# Altium footprint library MODULES.PcbLib: 6 footprints
Each footprint in its own frame and in the unit in brackets; x right, y up, seen from the top. Pads: shape width x height; smd on the part's side, far side on the other; paste and mask are expansions set on the pad; w line width, h text height; cw(c..) or ccw(c..) is an arc to the next point about the centre after c.
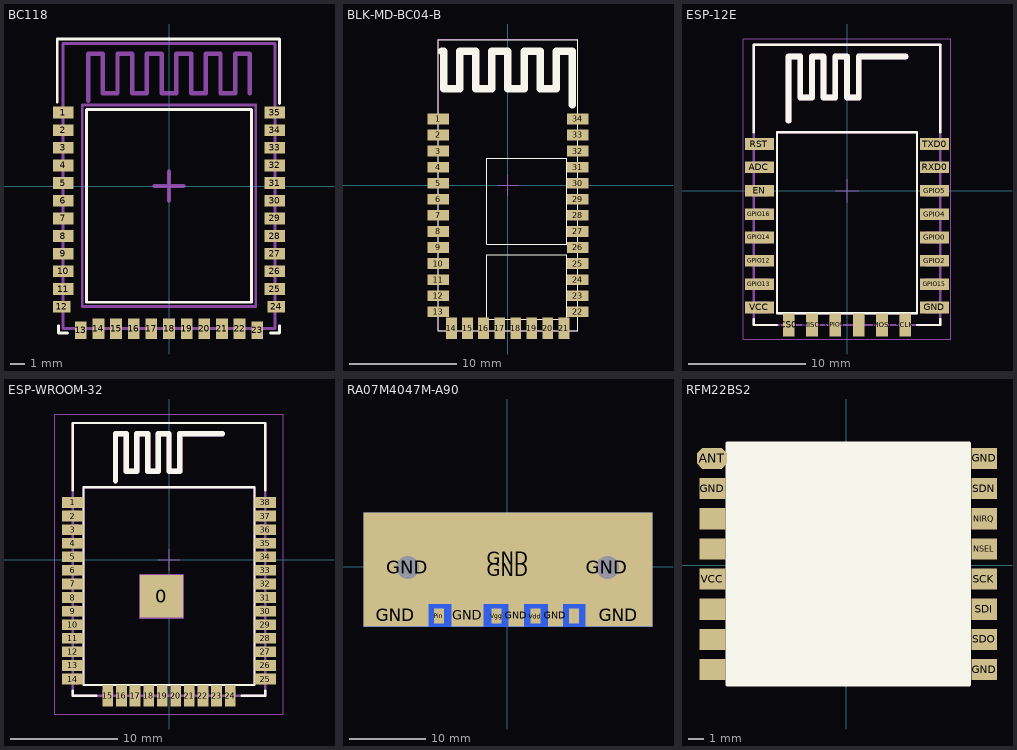
[diagram p0: the footprints below, top view; thin cyan lines are the x and y axes]

## BC118 [mm]
height 2.8
pads (35):
  rect 1.4x0.8 smd: 1(-7.2,5) 2(-7.2,3.8) 3(-7.2,2.6) 4(-7.2,1.4) 5(-7.2,0.2) 6(-7.2,-1) 7(-7.2,-2.2) 8(-7.2,-3.4) 9(-7.2,-4.6) 10(-7.2,-5.8) 11(-7.2,-7) 25(7.2,-7) 26(7.2,-5.8) 27(7.2,-4.6) 28(7.2,-3.4) 29(7.2,-2.2) 30(7.2,-1) 31(7.2,0.2) 32(7.2,1.4) 33(7.2,2.6) 34(7.2,3.8) 35(7.2,5)
  rect 1.2x0.8 smd: 12(-7.3,-8.2) 24(7.3,-8.2)
  rect 0.8x1.2 smd: 13(-6,-9.8) 23(6,-9.8)
  rect 0.8x1.4 smd: 14(-4.8,-9.7) 15(-3.6,-9.7) 16(-2.4,-9.7) 17(-1.2,-9.7) 18(0,-9.7) 19(1.2,-9.7) 20(2.4,-9.7) 21(3.6,-9.7) 22(4.8,-9.7)
Top Overlay:
  lines w0.2: -7.6,5.7 -7.6,10 7.5,10 7.5,5.6 ; -7.5,-9.5 -7.5,-10 -6.9,-10 ; 6.9,-10 7.5,-10 7.5,-9.5 ; -5.6,-7.9 5.6,-7.9 5.6,5.2 -5.6,5.2 -5.6,-7.9
Top Package:
  lines w0.2: -7.2,-9.7 -7.2,9.7 7.2,9.7 7.2,-9.7 -7.2,-9.7 ; -5.9,-8.2 -5.9,5.5 5.9,5.5 5.9,-8.2 -5.9,-8.2
  lines w0.3: -5.5,5.8 -5.5,9 -4.5,9 -4.5,6.3 -3.5,6.3 -3.5,9 -2.5,9 -2.5,6.3 -1.5,6.3 -1.5,9 -0.5,9 -0.5,6.3 0.5,6.3 0.5,9 1.5,9 1.5,6.3 2.5,6.3 2.5,9 3.5,9 3.5,6.3 4.5,6.3 4.5,9 5.5,9 5.5,6.3
Top Border:
  lines w0.254: -1,0 0,0 ; 0,-1 0,0 ; 0,1 0,0 ; 1,0 0,0

## BLK-MD-BC04-B [mm]
height 2.5
pads (34):
  rect 2x1 smd: 1(-6.5,6.19) 2(-6.5,4.69) 3(-6.5,3.19) 4(-6.5,1.69) 5(-6.5,0.19) 6(-6.5,-1.31) 7(-6.5,-2.81) 8(-6.5,-4.31) 9(-6.5,-5.81) 10(-6.5,-7.31) 11(-6.5,-8.81) 12(-6.5,-10.31) 13(-6.5,-11.81) 22(6.5,-11.81) 23(6.5,-10.31) 24(6.5,-8.81) 25(6.5,-7.31) 26(6.5,-5.81) 27(6.5,-4.31) 28(6.5,-2.81) 29(6.5,-1.31) 30(6.5,0.19) 31(6.5,1.69) 32(6.5,3.19) 33(6.5,4.69) 34(6.5,6.19)
  rect 1x2 smd: 14(-5.28,-13.35) 15(-3.78,-13.35) 16(-2.28,-13.35) 17(-0.78,-13.35) 18(0.72,-13.35) 19(2.22,-13.35) 20(3.72,-13.35) 21(5.22,-13.35)
Top Overlay:
  lines w0.1: -6.5,-13.6 6.5,-13.6 6.5,13.6 -6.5,13.6 -6.5,-13.6 ; -2,-12.5 5.5,-12.5 5.5,-6.5 -2,-6.5 -2,-12.5 ; -2,-5.5 5.5,-5.5 5.5,2.5 -2,2.5 -2,-5.5
  lines w0.254: -6,12.5 -6,12.5
  lines w0.7: -6.2,12.5 -6,12.5 -6,9 -4.5,9 -4.5,12.5 -3,12.5 -3,9 -1.5,9 -1.5,12.5 0,12.5 0,9 1.5,9 1.5,12.5 3,12.5 3,9 4.5,9 4.5,12.5 6,12.5 6,7.5
Top Border:
  lines w0.1: -1,0 1,0 ; 0,-1 0,1 ; -6.5,-13.575 6.5,-13.575 6.5,13.65 -6.5,13.65 -6.5,-13.575
3D body: height 1.5, standoff 0.8, extent -2,-5.5 5.5,2.5
3D body: height 1.5, standoff 0.8, extent -2,-12.5 5.5,-6.5
3D body: height 0.7, standoff 0.1, extent -6.5,-13.575 6.5,13.675

## ESP-12E [mm]
pads (22):
  rect 2.5x1 smd: ADC(-7.5,2) EN(-7.5,0) GND(7.5,-10) GPIO0(7.5,-4) GPIO2(7.5,-6) GPIO4(7.5,-2) GPIO5(7.5,0) GPIO12(-7.5,-6) GPIO13(-7.5,-8) GPIO14(-7.5,-4) GPIO15(7.5,-8) GPIO16(-7.5,-2) RST(-7.5,4) RXD0(7.5,2) TXD0(7.5,4) VCC(-7.5,-10)
  rect 1x2 smd: CS0(-5,-11.5) GPIO9(-1,-11.5) GPIO10(1,-11.5) MISO(-3,-11.5) MOSI(3,-11.5) SCLK(5,-11.5)
Top Overlay:
  lines w0.2: -8,-11 -8,-11.5 -6,-11.5 ; -8,5 -8,12.5 8,12.5 8,5 ; 6,-11.5 8,-11.5 8,-11 ; -6,-10.5 -6,5 6,5 6,-10.5 -6,-10.5
  lines w0.5: -5,6 -5,11.5 -4,11.5 -4,8 -3,8 -3,11.5 -2,11.5 -2,8 -1,8 -1,11.5 0,11.5 0,8 1,8 1,11.5 5,11.5
Top Package:
  lines w0.2: -8,-10.4 -6.8,-10.4 -6.8,-9.6 -8,-9.6 ; -8,-8.4 -6.8,-8.4 -6.8,-7.6 -8,-7.6 ; -8,-6.4 -6.8,-6.4 -6.8,-5.6 -8,-5.6 ; -8,-4.4 -6.8,-4.4 -6.8,-3.6 -8,-3.6 ; -8,-2.4 -6.8,-2.4 -6.8,-1.6 -8,-1.6 ; -8,-0.4 -6.8,-0.4 -6.8,0.4 -8,0.4 ; -8,1.6 -6.8,1.6 -6.8,2.4 -8,2.4 ; -8,3.6 -6.8,3.6 -6.8,4.4 -8,4.4 ; -5.4,-11.5 -5.4,-10.8 -4.6,-10.8 -4.6,-11.5 ; -3.4,-11.5 -3.4,-10.8 -2.6,-10.8 -2.6,-11.5 ; -1.4,-11.5 -1.4,-10.8 -0.6,-10.8 -0.6,-11.5 ; 0.6,-11.5 0.6,-10.8 1.4,-10.8 1.4,-11.5 ; 2.6,-11.5 2.6,-10.8 3.4,-10.8 3.4,-11.5 ; 4.6,-11.5 4.6,-10.8 5.4,-10.8 5.4,-11.5 ; 8,-10.4 6.8,-10.4 6.8,-9.6 8,-9.6 ; 8,-8.4 6.8,-8.4 6.8,-7.6 8,-7.6 ; 8,-6.4 6.8,-6.4 6.8,-5.6 8,-5.6 ; 8,-4.4 6.8,-4.4 6.8,-3.6 8,-3.6 ; 8,-2.4 6.8,-2.4 6.8,-1.6 8,-1.6 ; 8,-0.4 6.8,-0.4 6.8,0.4 8,0.4 ; 8,1.6 6.8,1.6 6.8,2.4 8,2.4 ; 8,3.6 6.8,3.6 6.8,4.4 8,4.4 ; -8,-11.5 -8,12.5 8,12.5 8,-11.5 -8,-11.5 ; -6,-10.5 -6,5 6,5 6,-10.5 -6,-10.5
  lines w0.5: -5,6 -5,11.5 -4,11.5 -4,8 -3,8 -3,11.5 -2,11.5 -2,8 -1,8 -1,11.5 0,11.5 0,8 1,8 1,11.5 5,11.5
Top Border:
  lines w0.1: -1,0 1,0 ; 0,-1 0,1 ; -8.9,-12.7 8.9,-12.7 8.9,13 -8.9,13 -8.9,-12.7
3D body "ESP-12E.stp": height 2.65, standoff -0.04, extent -8.005,-11.505 8.005,12.5
3D body "LED0603-Bottom.stp": height 1.05, standoff 0.64, extent 5.195,6.175 6.805,6.975
3D body "LED0603-Top.stp": height 1.45, standoff 0.95, extent 5.45,6.175 6.65,6.975

## ESP-WROOM-32 [mm]
height 2.8
pads (39):
  rect 4x4 smd: 0(-0.7,-3.4)
  rect 2x1 smd: 1(-9,5.38) 2(-9,4.11) 3(-9,2.84) 4(-9,1.57) 5(-9,0.3) 6(-9,-0.97) 7(-9,-2.24) 8(-9,-3.51) 9(-9,-4.78) 10(-9,-6.05) 11(-9,-7.32) 12(-9,-8.59) 13(-9,-9.86) 14(-9,-11.13) 25(9,-11.13) 26(9,-9.86) 27(9,-8.59) 28(9,-7.32) 29(9,-6.05) 30(9,-4.78) 31(9,-3.51) 32(9,-2.24) 33(9,-0.97) 34(9,0.3) 35(9,1.57) 36(9,2.84) 37(9,4.11) 38(9,5.38)
  rect 1x2 smd: 15(-5.715,-12.7) 16(-4.445,-12.7) 17(-3.175,-12.7) 18(-1.905,-12.7) 19(-0.635,-12.7) 20(0.635,-12.7) 21(1.905,-12.7) 22(3.175,-12.7) 23(4.445,-12.7) 24(5.715,-12.7)
Top Overlay:
  lines w0.2: -9,-12.2 -9,-12.7 -6.8,-12.7 ; -9,6.5 -9,12.8 9,12.8 9,6.5 ; 6.8,-12.7 9,-12.7 9,-12.2 ; -8,-11.7 8,-11.7 8,6.8 -8,6.8 -8,-11.7
  lines w0.5: -5,7.4 -5,11.8 -4,11.8 -4,8.3 -3,8.3 -3,11.8 -2,11.8 -2,8.3 -1,8.3 -1,11.8 0,11.8 0,8.3 1,8.3 1,11.8 5,11.8
Top Package:
  lines w0.2: -9,-11.525 -8.5,-11.525 -8.5,-10.725 -9,-10.725 ; -9,-10.255 -8.5,-10.255 -8.5,-9.455 -9,-9.455 ; -9,-8.985 -8.5,-8.985 -8.5,-8.185 -9,-8.185 ; -9,-7.715 -8.5,-7.715 -8.5,-6.915 -9,-6.915 ; -9,-6.445 -8.5,-6.445 -8.5,-5.645 -9,-5.645 ; -9,-5.175 -8.5,-5.175 -8.5,-4.375 -9,-4.375 ; -9,-3.905 -8.5,-3.905 -8.5,-3.105 -9,-3.105 ; -9,-2.635 -8.5,-2.635 -8.5,-1.835 -9,-1.835 ; -9,-1.365 -8.5,-1.365 -8.5,-0.565 -9,-0.565 ; -9,-0.095 -8.5,-0.095 -8.5,0.705 -9,0.705 ; -9,1.175 -8.5,1.175 -8.5,1.975 -9,1.975 ; -9,2.445 -8.5,2.445 -8.5,3.245 -9,3.245 ; -9,3.715 -8.5,3.715 -8.5,4.515 -9,4.515 ; -9,4.985 -8.5,4.985 -8.5,5.785 -9,5.785 ; -6.11,-12.7 -6.11,-12.2 -5.31,-12.2 -5.31,-12.7 ; -4.84,-12.7 -4.84,-12.2 -4.04,-12.2 -4.04,-12.7 ; -3.57,-12.7 -3.57,-12.2 -2.77,-12.2 -2.77,-12.7 ; -2.3,-12.7 -2.3,-12.2 -1.5,-12.2 -1.5,-12.7 ; -1.03,-12.7 -1.03,-12.2 -0.23,-12.2 -0.23,-12.7 ; 0.24,-12.7 0.24,-12.2 1.04,-12.2 1.04,-12.7 ; 1.51,-12.7 1.51,-12.2 2.31,-12.2 2.31,-12.7 ; 2.78,-12.7 2.78,-12.2 3.58,-12.2 3.58,-12.7 ; 4.05,-12.7 4.05,-12.2 4.85,-12.2 4.85,-12.7 ; 5.32,-12.7 5.32,-12.2 6.12,-12.2 6.12,-12.7 ; 9,-11.525 8.5,-11.525 8.5,-10.725 9,-10.725 ; 9,-10.255 8.5,-10.255 8.5,-9.455 9,-9.455 ; 9,-8.985 8.5,-8.985 8.5,-8.185 9,-8.185 ; 9,-7.715 8.5,-7.715 8.5,-6.915 9,-6.915 ; 9,-6.445 8.5,-6.445 8.5,-5.645 9,-5.645 ; 9,-5.175 8.5,-5.175 8.5,-4.375 9,-4.375 ; 9,-3.905 8.5,-3.905 8.5,-3.105 9,-3.105 ; 9,-2.635 8.5,-2.635 8.5,-1.835 9,-1.835 ; 9,-1.365 8.5,-1.365 8.5,-0.565 9,-0.565 ; 9,-0.095 8.5,-0.095 8.5,0.705 9,0.705 ; 9,1.175 8.5,1.175 8.5,1.975 9,1.975 ; 9,2.445 8.5,2.445 8.5,3.245 9,3.245 ; 9,3.715 8.5,3.715 8.5,4.515 9,4.515 ; 9,4.985 8.5,4.985 8.5,5.785 9,5.785 ; -9,-12.7 9,-12.7 9,12.8 -9,12.8 -9,-12.7 ; -8,-11.7 8,-11.7 8,6.8 -8,6.8 -8,-11.7 ; -2.7,-5.4 -2.7,-1.4 1.3,-1.4 1.3,-5.4 -2.7,-5.4
  lines w0.5: -5,7.4 -5,11.8 -4,11.8 -4,8.3 -3,8.3 -3,11.8 -2,11.8 -2,8.3 -1,8.3 -1,11.8 0,11.8 0,8.3 1,8.3 1,11.8 5,11.8
Top Border:
  lines w0.1: -1,0 1,0 ; 0,-1 0,1 ; -10.7,-14.4 10.7,-14.4 10.7,13.65 -10.7,13.65 -10.7,-14.4
3D body "ESP-WROOM-32.stp": height 2.6, standoff -0.04, extent -9.005,-12.755 9.005,12.75

## RA07M4047M-A90 [mm]
height 6
pads (13):
  rect 8.5x3 smd: GND(-14.65,-6.4)
  oval 8x5 hole 3: GND(-13.1,-0.1) GND(13.2,-0.1)
  rect 4.2x3 smd: GND(-5.207,-6.4)
  rect 38x15 smd far side: GND(0.1,-0.4)
  rect 38x12 smd: GND(0.1,1.1)
  rect 2x3 smd: GND(1.194,-6.4) GND(6.35,-6.4)
  rect 8.8x3 smd: GND(14.7,-6.4)
  rect 1.3x2 smd: Pin(-9,-6.5) Pout(8.8,-6.5) Vdd(3.7,-6.5) Vgg(-1.4,-6.5)
Top Overlay:
  lines w0.254: -10.5,-3.05 -15,-3.05 -15,-1.55 -13.3,-1.55 ccw(c-13.3,-0.05) -13.3,1.45 -15,1.45 -15,2.95 -10.5,2.95 ; 10.5,-3.05 15,-3.05 15,-1.55 13.3,-1.55 cw(c13.3,-0.05) 13.3,1.45 15,1.45 15,2.95 10.5,2.95 ; -10.5,-5.05 10.5,-5.05 10.5,4.95 -10.5,4.95 -10.5,4.45 -10.5,-5.05
3D body: height 1.5, standoff 0, extent -15,-3.05 15,2.95
3D body: height 5.4, standoff 0.75, extent -10.5,-5.05 10.5,4.95

## RFM22BS2 [mm]
height 2
pads (16):
  oct 2x1.4 smd: ANT(-8.899,7.077)
  rect 1.7x1.4 smd: GND(-8.874,5.077) GND(9.126,-6.923) GND(9.126,7.077) GPIO_0(-8.874,-2.923) GPIO_1(-8.874,-4.923) GPIO_2(-8.874,-6.923) NIRQ(9.126,3.077) NSEL(9.126,1.077) RX_ANT(-8.874,3.077) SCK(9.126,-0.923) SDI(9.126,-2.923) SDN(9.126,5.077) SDO(9.126,-4.923) TX_ANT(-8.874,1.077) VCC(-8.874,-0.923)
Top Overlay:
  circle w0.254: c-6.874,7.077 r0.361
  rectangle: -7.174,6.777 -6.574,7.377
  pour cut-out: -7.874,8.077 -7.874,-7.923 8.126,-7.923 8.126,8.077
  lines w0.254: 8.126,-7.923 -7.874,-7.923 -7.874,8.077 8.126,8.077 ; 8.126,-7.923 8.126,8.077 ; 8.126,-7.923 8.126,8.077
3D body: height 1.1, standoff 0.1, extent -7.874,-7.923 8.126,8.077
3D body "User Library-0402 SMD Capacitor.step": height 1.3, standoff 1.1, extent -6.974,2.977 -6.374,3.977
3D body "User Library-0402 SMD Capacitor.step": height 1.3, standoff 1.1, extent -6.874,5.077 -6.274,6.077
3D body "User Library-0402 SMD Capacitor.step": height 1.3, standoff 1.1, extent -6.074,-6.723 -5.074,-6.123
3D body "User Library-0402 SMD Capacitor.step": height 1.3, standoff 1.1, extent -6.074,-5.423 -5.074,-4.823
3D body "User Library-0402 SMD Capacitor.step": height 1.3, standoff 1.1, extent -5.074,-1.423 -4.074,-0.823
3D body "User Library-0402 SMD Capacitor.step": height 1.3, standoff 1.1, extent -6.074,-4.323 -5.074,-3.723
3D body "User Library-0402 SMD Capacitor.step": height 1.3, standoff 1.1, extent -4.774,5.177 -4.174,6.177
3D body "User Library-0402 SMD Capacitor.step": height 1.3, standoff 1.1, extent -5.774,5.177 -5.174,6.177
3D body "User Library-0402 SMD Capacitor.step": height 1.3, standoff 1.1, extent -1.274,1.777 -0.674,2.777
3D body "User Library-0402 SMD Capacitor.step": height 1.3, standoff 1.1, extent 0.426,1.677 1.026,2.677
3D body "User Library-0402 SMD Capacitor.step": height 1.3, standoff 1.1, extent -4.774,0.077 -3.774,0.677
3D body "User Library-0402 SMD Capacitor.step": height 1.3, standoff 1.1, extent -2.074,6.177 -1.074,6.777
3D body "User Library-0402 SMD Capacitor.step": height 1.3, standoff 1.1, extent -6.374,6.577 -5.374,7.177
3D body "User Library-0402 SMD Capacitor.step": height 1.3, standoff 1.1, extent -6.674,-2.823 -6.074,-1.823
3D body "User Library-0402 SMD Capacitor.step": height 1.3, standoff 1.1, extent -6.574,-0.823 -5.974,0.177
3D body "User Library-SOT-23-6-3.step": height 1.96, standoff 1.1, extent -5.379,1.977 -2.569,4.977
3D body "User Library-0402 SMD Capacitor.step": height 1.3, standoff 1.1, extent -0.174,6.077 0.826,6.677
3D body "User Library-GeyerElectronics_KX9A.step": height 2.11, standoff 1.1, extent 2.226,-2.323 5.426,2.677
3D body "User Library-QFN4x4_20pins.step": height 1.9, standoff 1.1, extent -2.994,-4.843 1.046,-0.803